# Altium schematic symbol library Holder,Tab,Cell,21700,SMD.Schlib: 1 symbol
Pins are listed as number, name and electrical type; pins without a type are passive.

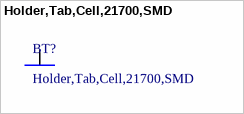
[diagram p0: symbol Holder,Tab,Cell,21700,SMD]

## Holder,Tab,Cell,21700,SMD
designator BT?
Battery Contact Clip 20700, 21700 1 Cell SMD (SMT) Tab
pins: 1 BATT_P